# EAGLE library part RR_5X_B (library #PaJa_30)
Odporova sit - 5x
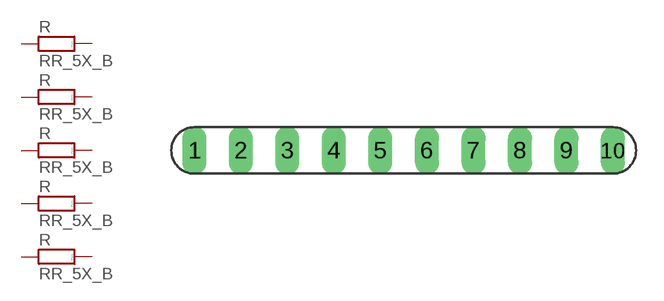
[diagram p28: symbol with the pads of RR_5X_B; footprint RR_5X_B]

Designator prefix R; gates R1=RR R2=RR R3=RR R4=RR R5=RR

## RR_5X_B  [RR_5X_B]
1  R1:1  pas
2  R1:2  pas
3  R2:1  pas
4  R2:2  pas
5  R3:1  pas
6  R3:2  pas
7  R4:1  pas
8  R4:2  pas
9  R5:1  pas
10  R5:2  pas

## Footprint RR_5X_B (pad centres in mm)
drill 0.813 pad 1.27 long: 1 -11.43,0; 2 -8.89,0; 3 -6.35,0; 4 -3.81,0; 5 -1.27,0; 6 1.27,0; 7 3.81,0; 8 6.35,0; 9 8.89,0; 10 11.43,0